# Altium footprint library libreriaPcb.PcbLib: 683 footprints (part 23 of 44)
Each footprint in its own frame and in the unit in brackets; x right, y up, seen from the top. Pads: shape width x height; smd on the part's side, far side on the other; paste and mask are expansions set on the pad; w line width, h text height; cw(c..) or ccw(c..) is an arc to the next point about the centre after c.
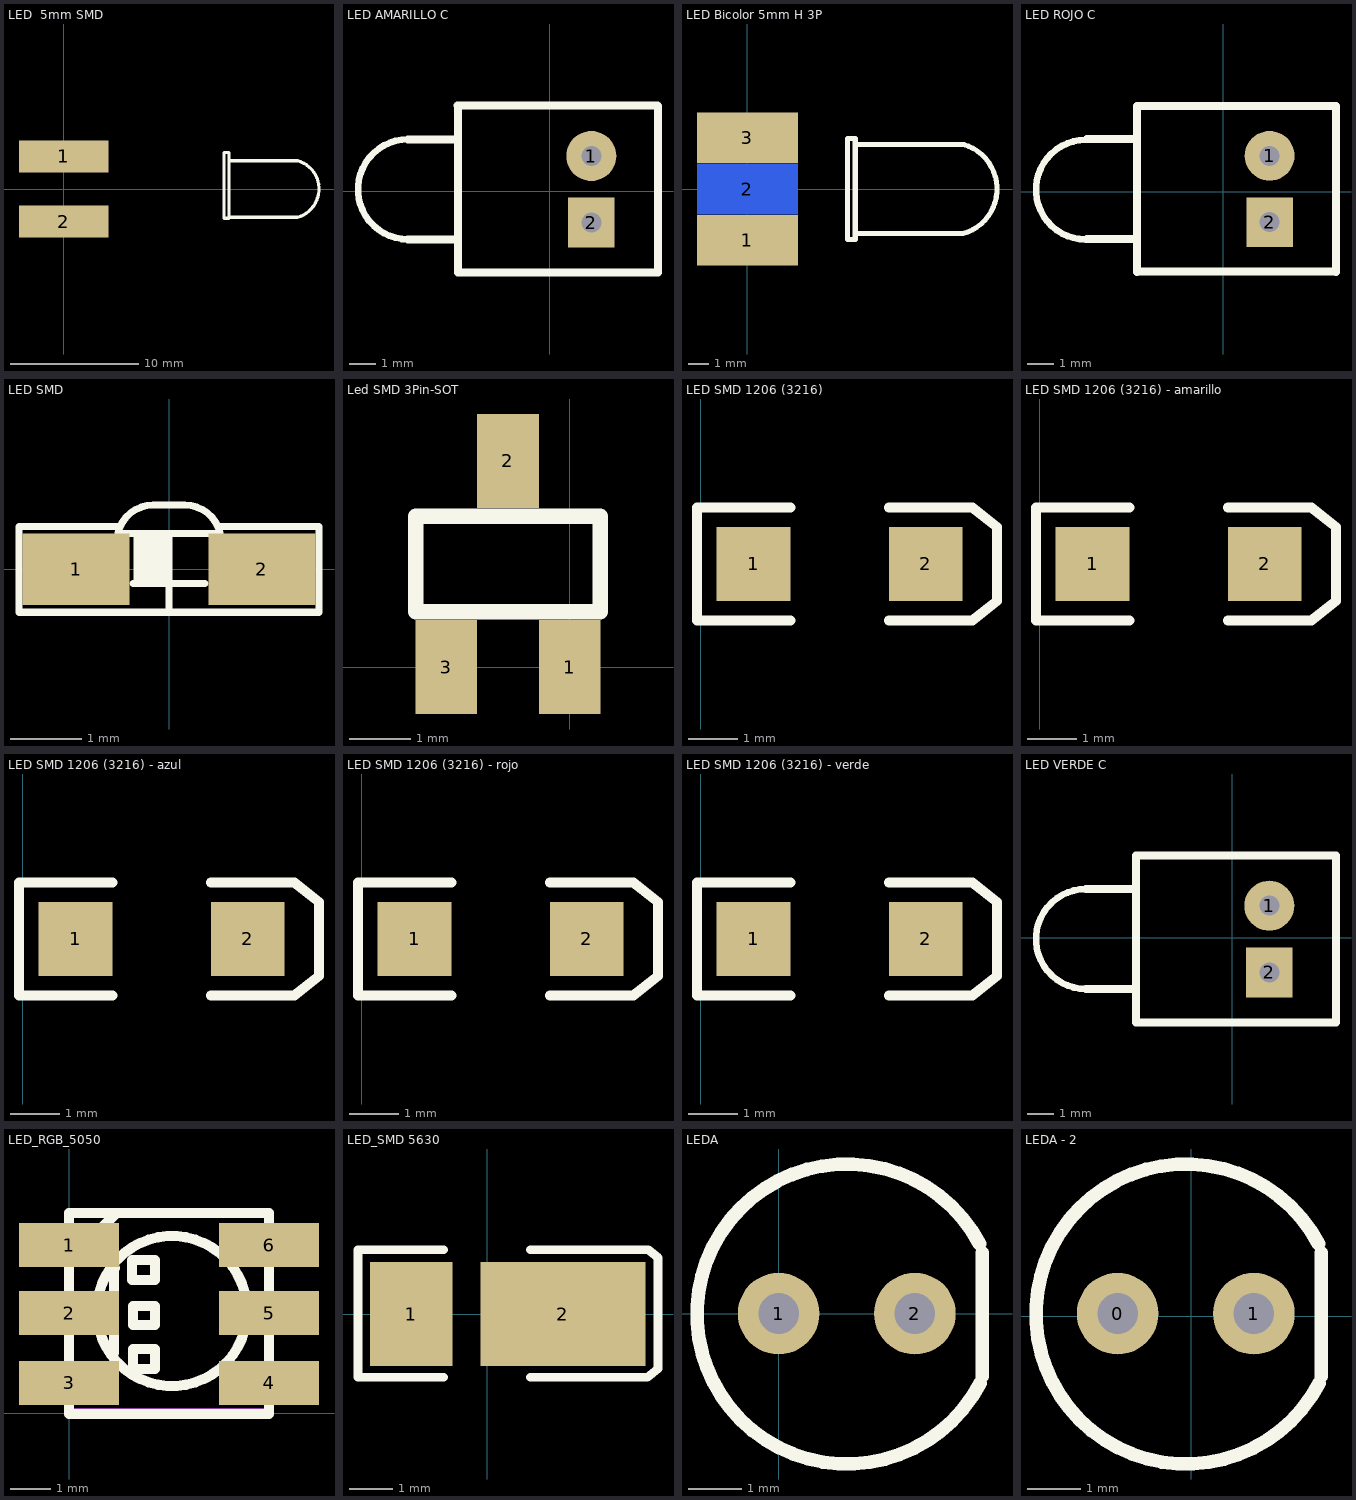
[diagram p22: the footprints below, top view; thin cyan lines are the x and y axes]

## LED  5mm SMD [mm]
pads (2):
  rect 7x2.5 smd: 1(0,2.54) 2(0,-2.54)
Top Overlay:
  lines w0.254: 12.881,0 12.881,2.848 12.5,2.848 12.5,-2.286 12.881,-2.286 12.881,2.5 ; 12.928,-2.212 18.215,-2.212 ccw(c17.606,0.003) 18.258,2.206 ; 12.928,2.212 18.215,2.212

## LED AMARILLO C [mil]
pads (2):
  round 75 hole 30: 1(62.72,53.16)
  rect 70x75 hole 30: 2(62.72,-46.84)
Top Overlay:
  lines w10: -212.28,-71.84 cw(c-212.28,3.16) -212.28,78.16
  lines w12: -212.28,-71.84 -137.28,-71.84 ; -212.28,78.16 -137.28,78.16 ; -138.28,129.16 161.72,129.16 ; -137.28,128.16 -137.28,-121.84 ; 162.72,128.16 162.72,-121.84 ; -137.28,-121.84 162.72,-121.84 ; -137.28,-121.84 162.72,-121.84 ; -137.28,-121.84 162.72,-121.84 ; -137.28,-121.84 162.72,-121.84
3D body: height 236.22, standoff 7.87, extent -137.26,-121.82 162.7,128.14
3D body: height 196.85, standoff 39.37, extent -287.26,-71.82 -137.3,78.14
3D body: height 39.37, standoff -39.37, extent 43.19,33.52 82.41,72.81
3D body: height 39.37, standoff -39.37, extent 43.19,-66.48 82.41,-27.19

## LED Bicolor 5mm H 3P [mm]
pads (3):
  rect 5x2.5 smd: 1(0,-2.54) 3(0,2.54)
  rect 5x2.5 smd far side: 2(0,0)
Top Overlay:
  lines w0.254: 5.381,-2.212 10.668,-2.212 ccw(c10.059,0.003) 10.711,2.206 ; 5.381,2.212 10.668,2.212 ; 4.953,-2.5 5.334,-2.5 5.334,2.5 4.953,2.5 4.953,-2.5

## LED ROJO C [mil]
pads (2):
  round 75 hole 30: 1(70,54)
  rect 70x75 hole 30: 2(70,-46)
Top Overlay:
  lines w10: -207,-72 cw(c-207,3) -207,78
  lines w12: -205,-71 -130,-71 ; -205,79 -130,79 ; -130,-121 -130,129 ; -130,-120 170,-120 ; 170,-121 170,129 ; -130,129 170,129 ; -130,129 170,129
3D body: height 196.85, standoff 39.37, extent -281.98,-71.98 -132.02,77.98
3D body: height 236.22, standoff 7.87, extent -129.98,-120.98 169.98,128.98
3D body: height 39.37, standoff -39.37, extent 50.48,34.36 89.69,73.65
3D body: height 39.37, standoff -39.37, extent 50.48,-65.64 89.69,-26.35

## LED SMD [mm] "2.1x0.6mm RIGHT ANGLE SURFACE LED"
pads (2):
  rect 1.5x1 smd: 1(-1.3,0) 2(1.3,0)
Top Overlay:
  rectangle: -0.5,-0.2 0,0.504
  lines w0.1: -0.7,0.6 -2.1,0.6 -2.1,-0.6 2.1,-0.6 2.1,0.6 0.7,0.6 ; -0.5,-0.2 0.5,-0.2 ; 0,-0.6 0,0.504 ; -0.716,0.504 cw(c-0.224,0.396) -0.22,0.9 0.22,0.9 cw(c0.224,0.396) 0.716,0.504 -0.716,0.504

## Led SMD 3Pin-SOT [mm]
pads (3):
  rect 1x1.524 smd: 1(0,0) 2(-1,3.35) 3(-2,0)
Top Overlay:
  lines w0.254: -2.5,0.9 0.5,0.9 0.5,2.45 -2.5,2.45 -2.5,0.9

## LED SMD 1206 (3216) [mm]
pads (2):
  rect 1.5x1.5 smd: 1(1.07,-3.52) 2(4.57,-3.52)
Top Overlay:
  lines w0.2: 1.82,-4.67 -0.08,-4.67 -0.08,-2.37 1.82,-2.37 ; 3.82,-4.67 5.52,-4.67 6.02,-4.27 6.02,-2.77 5.52,-2.37 3.82,-2.37
3D body: height 1, standoff 0, extent 1.143,-4.343 4.445,-2.718

## LED SMD 1206 (3216) - amarillo [mm]
pads (2):
  rect 1.5x1.5 smd: 1(1.07,-3.52) 2(4.57,-3.52)
Top Overlay:
  lines w0.2: 1.82,-4.67 -0.08,-4.67 -0.08,-2.37 1.82,-2.37 ; 3.82,-4.67 5.52,-4.67 6.02,-4.27 6.02,-2.77 5.52,-2.37 3.82,-2.37
3D body: height 1, standoff 0, extent 1.143,-4.343 4.445,-2.718

## LED SMD 1206 (3216) - azul [mm]
pads (2):
  rect 1.5x1.5 smd: 1(1.07,-3.52) 2(4.57,-3.52)
Top Overlay:
  lines w0.2: 1.82,-4.67 -0.08,-4.67 -0.08,-2.37 1.82,-2.37 ; 3.82,-4.67 5.52,-4.67 6.02,-4.27 6.02,-2.77 5.52,-2.37 3.82,-2.37
3D body: height 1, standoff 0, extent 1.143,-4.343 4.445,-2.718

## LED SMD 1206 (3216) - rojo [mm]
pads (2):
  rect 1.5x1.5 smd: 1(1.07,-3.52) 2(4.57,-3.52)
Top Overlay:
  lines w0.2: 1.82,-4.67 -0.08,-4.67 -0.08,-2.37 1.82,-2.37 ; 3.82,-4.67 5.52,-4.67 6.02,-4.27 6.02,-2.77 5.52,-2.37 3.82,-2.37
3D body: height 1, standoff 0, extent 1.143,-4.343 4.445,-2.718

## LED SMD 1206 (3216) - verde [mm]
pads (2):
  rect 1.5x1.5 smd: 1(1.07,-3.52) 2(4.57,-3.52)
Top Overlay:
  lines w0.2: 1.82,-4.67 -0.08,-4.67 -0.08,-2.37 1.82,-2.37 ; 3.82,-4.67 5.52,-4.67 6.02,-4.27 6.02,-2.77 5.52,-2.37 3.82,-2.37
3D body: height 1, standoff 0, extent 1.143,-4.343 4.445,-2.718

## LED VERDE C [mil]
pads (2):
  round 75 hole 30: 1(55.65,48.38)
  rect 70x75 hole 30: 2(55.65,-51.62)
Top Overlay:
  lines w10: -219.35,-76.62 cw(c-219.35,-1.62) -219.35,73.38
  lines w12: -219.35,-76.62 -144.35,-76.62 ; -219.35,73.38 -144.35,73.38 ; -144.35,-126.62 155.65,-126.62 ; -144.35,-126.62 -144.35,123.38 155.65,123.38 155.65,-126.62 ; -144.35,-126.62 155.65,-126.62
3D body: height 236.22, standoff 7.87, extent -144.33,-126.6 155.63,123.36
3D body: height 196.85, standoff 39.37, extent -294.33,-76.6 -144.37,73.36
3D body: height 39.37, standoff -39.37, extent 36.12,-71.26 75.34,-31.97
3D body: height 39.37, standoff -39.37, extent 36.12,28.74 75.34,68.03

## LED_RGB_5050 [mm]
pads (6):
  rect 2.5x1.1 smd: 1(0,4.2) 2(0,2.5) 3(0,0.75) 4(5,0.75) 5(5,2.5) 6(5,4.2)
Top Overlay:
  circle w0.254: c2.575,2.55 r1.877
  lines w0.254: 0,2.488 0,2.5 ; 0,3.81 1.194,5.004 ; 1.125,1.5 1.125,3.625 1.15,3.625 ; 0,-0.025 0,5 5,5 5,-0.025 0,-0.025 ; 1.575,3.325 1.575,3.825 1.6,3.825 2.15,3.825 2.15,3.325 1.575,3.325 ; 1.6,1.1 1.6,1.425 1.6,1.6 2.15,1.6 2.15,1.1 1.6,1.1 ; 1.6,2.2 1.6,2.675 2.15,2.675 2.15,2.2 1.6,2.2
Mechanical 1:
  lines w0.254: 0,0 0,5 5,5 5,0 0,0
3D body: height 1.5, standoff 0, extent -0.152,-0.104 5.102,5.024
3D body: height 1.6, standoff 0, extent 0.699,0.674 4.451,4.426
3D body: height 1.65, standoff 0, extent 1.575,3.325 2.075,3.825
3D body: height 1.65, standoff 0, extent 1.625,2.175 2.125,2.675
3D body: height 1.65, standoff 0, extent 1.625,1.075 2.125,1.575
3D body: height 1.7, standoff 0, extent 3.941,3.97 4.679,4.645
3D body: height 1.45, standoff 0, extent 0,3.632 1.183,5

## LED_SMD 5630 [mm]
pads (2):
  rect 1.9x2.4 smd: 1(-1.75,0)
  rect 3.8x2.4 smd: 2(1.75,0)
Top Overlay:
  lines w0.2: -1,-1.464 -2.981,-1.464 -2.981,1.486 -1,1.486 ; 1,-1.464 3.694,-1.464 3.944,-1.264 3.944,1.301 3.713,1.486 1,1.486
3D body: height 1, standoff 0, extent -2.981,-1.464 3.944,1.486
3D body: height 2, standoff 0, extent -2.575,-1.15 3.45,1.175
3D body: height 0.25, standoff 0, extent -2.981,-1.464 4.025,1.486

## LEDA [mil]
pads (2):
  round 60 hole 30: 1(0,0) 2(100,0)
Top Overlay:
  lines w10: 147.55,51.35 ccw(c50.19,-0.26) 147.86,-51.27 ; 149.67,-45.96 149.67,44.8
3D body: height 157.48, standoff 78.74, extent -61,-112 146.61,109
3D body: height 236.22, standoff 39.37, extent -50.33,-100.4 146.43,96.4
3D body: height 78.74, standoff 0, extent -23.62,-23.62 23.63,23.63
3D body: height 78.74, standoff 0, extent 76.88,-24.12 124.12,23.12

## LEDA - 2 [mil]
pads (2):
  round 60 hole 30: 0(-54,2) 1(46,2)
Top Overlay:
  lines w10: 93.55,53.35 ccw(c-3.81,1.74) 93.86,-49.27 ; 95.67,-43.96 95.67,46.8
3D body: height 157.48, standoff 78.74, extent -115,-110 92.61,111
3D body: height 236.22, standoff 39.37, extent -104.33,-98.4 92.43,98.4
3D body: height 78.74, standoff 0, extent -77.62,-21.62 -30.37,25.63
3D body: height 78.74, standoff 0, extent 22.88,-22.12 70.12,25.12